# Altium schematic symbol library LAN8742AI-CZ.Schlib: 1 symbol
Pins are listed as number, name and electrical type; pins without a type are passive.

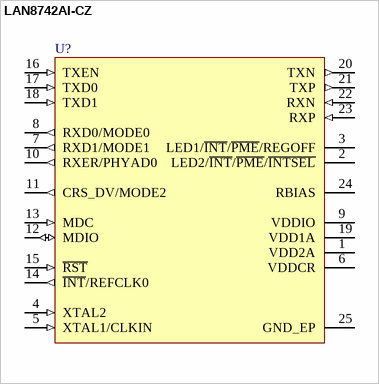
[diagram p0: symbol LAN8742AI-CZ]

## LAN8742AI-CZ
designator U?
Single port Ethernet physical Layer
pins: 1 VDD2A (power), 2 LED2/~{INT}/~{PME}/~{INTSEL}, 3 LED1/~{INT}/~{PME}/REGOFF, 4 XTAL2 (in), 5 XTAL1/CLKIN (in), 6 VDDCR (power), 7 RXD1/MODE1 (out), 8 RXD0/MODE0 (out), 9 VDDIO (power), 10 RXER/PHYAD0 (out), 11 CRS_DV/MODE2 (out), 12 MDIO (io), 13 MDC (in), 14 ~{INT}/REFCLK0 (out), 15 ~{RST} (in), 16 TXEN (in), 17 TXD0 (in), 18 TXD1 (in), 19 VDD1A (power), 20 TXN (out), 21 TXP (out), 22 RXN (in), 23 RXP (in), 24 RBIAS, 25 GND_EP (power)